# EAGLE library part FDC6312P (library AR_transistor)
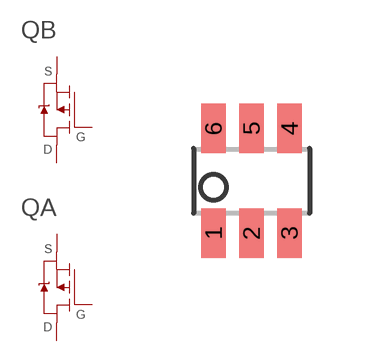
[diagram p1: symbol with the pads of SOT23-6; footprint SOT23-6]

Designator prefix Q; gates A=P-CHANNEL-MOSFET B=P-CHANNEL-MOSFET

## FDC6312P  [SOT23-6]
1  A:G
2  B:S
3  B:G
4  B:D
5  A:S
6  A:D

## Footprint SOT23-6 (pad centres in mm)
smd 0.62 x 1.23: 1 -0.95,-1.31; 2 0,-1.31; 3 0.95,-1.31; 4 0.95,1.31; 5 0,1.31; 6 -0.95,1.31